# Altium schematic symbol library BAT60AE6327HTSA1.SchLib: 1 symbol
Pins are listed as number, name and electrical type; pins without a type are passive.

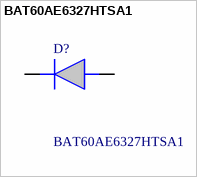
[diagram p0: symbol BAT60AE6327HTSA1]

## BAT60AE6327HTSA1
designator D?
INFINEON - BAT60AE6327HTSA1 - RECTIFIER, SCHOTTKY, 3A, 10V, SOD-323; Geometry.Height: 1.1mm; Mouser Part Number: 726-BAT60AE6327HTSA1; Mouser Price/Stock: https://www.mouser.co.uk/ProductDetail/Infineon-Technologies/BAT60AE6327HTSA1?qs=OwbwYO03UsIW3Y2lCXbs8Q%3D%3D; Manufacturer_Name: Infineon; Manufacturer_Part_Number: BAT60AE6327HTSA1; Datasheet Link: https://www.infineon.com/dgdl/Infineon-BAT60ASERIES-DS-v01_01-en.pdf?fileId=db3a304313d846880113def70c9304a9
footprint SOD2513X110N
pins: 1 K, 2 A